# Altium footprint library LED_SMD.PcbLib: 1 footprints
Each footprint in its own frame and in the unit in brackets; x right, y up, seen from the top. Pads: shape width x height; smd on the part's side, far side on the other; paste and mask are expansions set on the pad; w line width, h text height; cw(c..) or ccw(c..) is an arc to the next point about the centre after c.
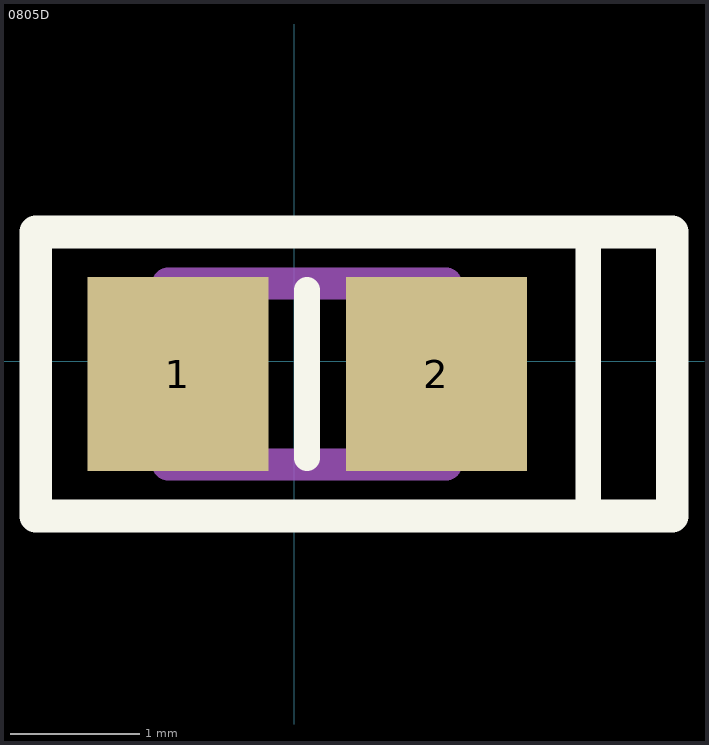
[diagram p0: the footprint, top view; thin cyan lines are the x and y axes]

## 0805D [mm]
pads (2):
  rect 1.4x1.5 smd: 1(-0.9,-0.1) 2(1.1,-0.1)
Top Overlay:
  lines w0.2: 0.1,-0.75 0.1,0.55 ; 2.275,1 2.275,-1.15 2.325,-1.2 2.925,-1.2
  lines w0.254: -2,-1.2 -2,1 2.925,1 2.925,-1.2 -2,-1.2
Mechanical 4:
  lines w0.25: -0.975,-0.8 1.175,-0.8 1.175,0.6 -0.975,0.6 -0.975,-0.8
3D body: height 0.7, standoff 0, extent -0.975,-0.8 1.175,0.6